# EAGLE library part 52207-1185 (library con-Molex)
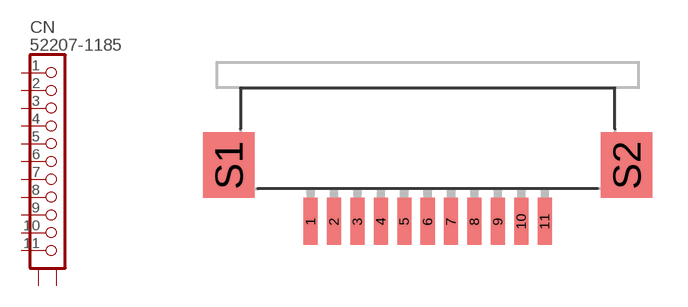
[diagram p4: symbol with the pads of 52207-11; footprint 52207-11]

Designator prefix CN

## 52207-1185  [52207-11]
1  1  pas
2  2  pas
3  3  pas
4  4  pas
5  5  pas
6  6  pas
7  7  pas
8  8  pas
9  9  pas
10  10  pas
11  11  pas
S1  S1  pas
S2  S2  pas

## Footprint 52207-11 (pad centres in mm)
smd 0.6 x 2: 1 -5,-2.4; 2 -4,-2.4; 3 -3,-2.4; 4 -2,-2.4; 5 -1,-2.4; 6 0,-2.4; 7 1,-2.4; 8 2,-2.4; 9 3,-2.4; 10 4,-2.4; 11 5,-2.4
smd 2.2 x 2.8: S1 -8.5,0; S2 8.5,0